# Altium integrated library Inductor 22uH.IntLib: 360 symbols (part 5 of 7)
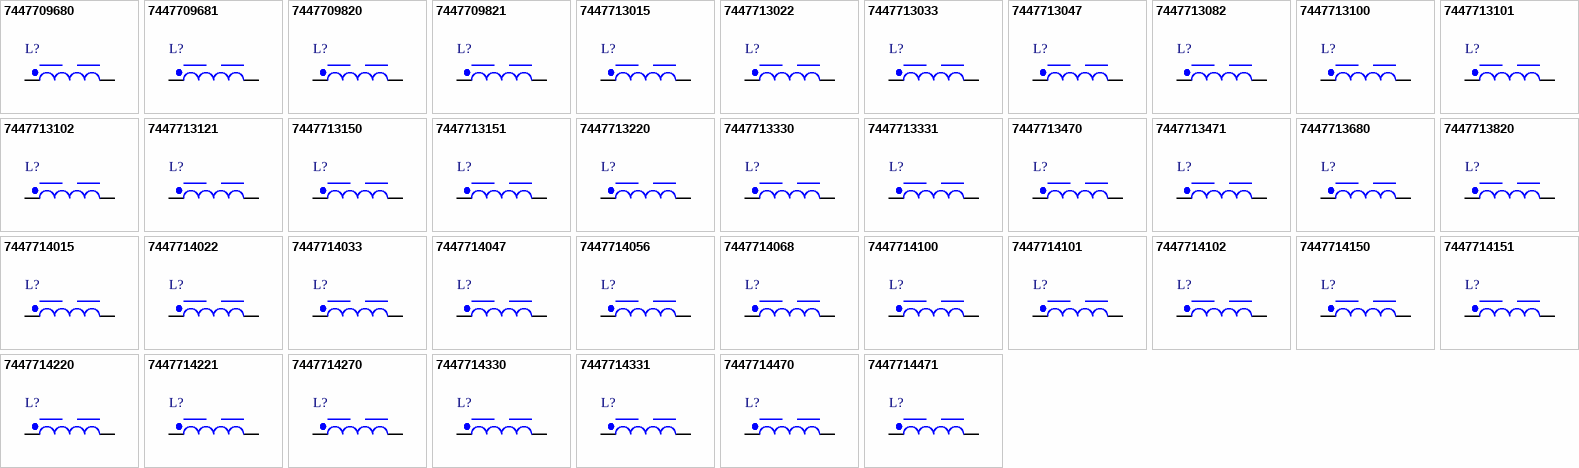
[diagram p12: symbols 7447709680 to 7447714471]

## 7447713680
designator L?, comment 68 μH, 1.1 A  (value not drawn)
WE-PD SMT Power Inductor, size 1030P, 68 μH, 1.1 A, 330 mΩ; Manufacturer Part Number: 7447713680; Manufacturer: Wurth Elektronik; DC Resistance: 275 mΩ; DC Resistance Max: 330 mΩ; Inductance: 68 μH; Rated Current: 1.1 A; Saturation Current: 1.6 A; Self Resonant Frequency: 9.4 MHz; Type: Performance; Category: Power Inductors; Match Code: WE-PD; ComponentLink1Description: Website Link; ComponentLink1URL: https://www.we-online.com/redexpert/article/7447713680?ad; ComponentLink2Description: Datasheet Link; ComponentLink2URL: https://www.we-online.com/redexpert/spec/7447713680?ad; Mount: Surface Mount; Min Operating Temperature: -40 °C; Max Operating Temperature: 150 °C; Packaging: Tape and Reel; Case/Size Code: 1030P; Length: 10 mm; Width: 10 mm; Height: 3 mm
footprint WE-PD_1030P
simulation model 1030_7447713680_68u
pins: 1, 2

## 7447713820
designator L?, comment 82 μH, 0.95 A  (value not drawn)
WE-PD SMT Power Inductor, size 1030P, 82 μH, 0.95 A, 419 mΩ; Manufacturer Part Number: 7447713820; Manufacturer: Wurth Elektronik; DC Resistance: 349 mΩ; DC Resistance Max: 419 mΩ; Inductance: 82 μH; Rated Current: 0.95 A; Saturation Current: 1.5 A; Self Resonant Frequency: 8.8 MHz; Type: Performance; Category: Power Inductors; Match Code: WE-PD; ComponentLink1Description: Website Link; ComponentLink1URL: https://www.we-online.com/redexpert/article/7447713820?ad; ComponentLink2Description: Datasheet Link; ComponentLink2URL: https://www.we-online.com/redexpert/spec/7447713820?ad; Mount: Surface Mount; Min Operating Temperature: -40 °C; Max Operating Temperature: 150 °C; Packaging: Tape and Reel; Case/Size Code: 1030P; Length: 10 mm; Width: 10 mm; Height: 3 mm
footprint WE-PD_1030P
simulation model 1030_7447713820_82u
pins: 1, 2

## 7447714015
designator L?, comment 1.5 μH, 10 A  (value not drawn)
WE-PD SMT Power Inductor, size 1050P, 1.5 μH, 10 A, 6.6 mΩ; Manufacturer Part Number: 7447714015; Manufacturer: Wurth Elektronik; DC Resistance: 5.55 mΩ; DC Resistance Max: 6.6 mΩ; Inductance: 1.5 μH; Rated Current: 10 A; Saturation Current: 12.5 A; Self Resonant Frequency: 69 MHz; Type: Performance; Category: Power Inductors; Match Code: WE-PD; ComponentLink1Description: Website Link; ComponentLink1URL: https://www.we-online.com/redexpert/article/7447714015?ad; ComponentLink2Description: Datasheet Link; ComponentLink2URL: https://www.we-online.com/redexpert/spec/7447714015?ad; Mount: Surface Mount; Min Operating Temperature: -40 °C; Max Operating Temperature: 150 °C; Packaging: Tape and Reel; Case/Size Code: 1050P; Length: 10 mm; Width: 10 mm; Height: 5 mm
footprint WE-PD_1050P
simulation model 1050_7447714015_1.5u
pins: 1, 2

## 7447714022
designator L?, comment 2.2 μH, 8.6 A  (value not drawn)
WE-PD SMT Power Inductor, size 1050P, 2.2 μH, 8.6 A, 8 mΩ; Manufacturer Part Number: 7447714022; Manufacturer: Wurth Elektronik; DC Resistance: 6.8 mΩ; DC Resistance Max: 8 mΩ; Inductance: 2.2 μH; Rated Current: 8.6 A; Saturation Current: 9.5 A; Self Resonant Frequency: 53 MHz; Type: Performance; Category: Power Inductors; Match Code: WE-PD; ComponentLink1Description: Website Link; ComponentLink1URL: https://www.we-online.com/redexpert/article/7447714022?ad; ComponentLink2Description: Datasheet Link; ComponentLink2URL: https://www.we-online.com/redexpert/spec/7447714022?ad; Mount: Surface Mount; Min Operating Temperature: -40 °C; Max Operating Temperature: 150 °C; Packaging: Tape and Reel; Case/Size Code: 1050P; Length: 10 mm; Width: 10 mm; Height: 5 mm
footprint WE-PD_1050P
simulation model 1050_7447714022_2.2u
pins: 1, 2

## 7447714033
designator L?, comment 3.3 μH, 7.5 A  (value not drawn)
WE-PD SMT Power Inductor, size 1050P, 3.3 μH, 7.5 A, 10.5 mΩ; Manufacturer Part Number: 7447714033; Manufacturer: Wurth Elektronik; DC Resistance: 8.9 mΩ; DC Resistance Max: 10.5 mΩ; Inductance: 3.3 μH; Rated Current: 7.5 A; Saturation Current: 9 A; Self Resonant Frequency: 42 MHz; Type: Performance; Category: Power Inductors; Match Code: WE-PD; ComponentLink1Description: Website Link; ComponentLink1URL: https://www.we-online.com/redexpert/article/7447714033?ad; ComponentLink2Description: Datasheet Link; ComponentLink2URL: https://www.we-online.com/redexpert/spec/7447714033?ad; Mount: Surface Mount; Min Operating Temperature: -40 °C; Max Operating Temperature: 150 °C; Packaging: Tape and Reel; Case/Size Code: 1050P; Length: 10 mm; Width: 10 mm; Height: 5 mm
footprint WE-PD_1050P
simulation model 1050_7447714033_3.3u
pins: 1, 2

## 7447714047
designator L?, comment 4.7 μH, 7 A  (value not drawn)
WE-PD SMT Power Inductor, size 1050P, 4.7 μH, 7 A, 12.4 mΩ; Manufacturer Part Number: 7447714047; Manufacturer: Wurth Elektronik; DC Resistance: 10.4 mΩ; DC Resistance Max: 12.4 mΩ; Inductance: 4.7 μH; Rated Current: 7 A; Saturation Current: 8 A; Self Resonant Frequency: 34 MHz; Type: Performance; Category: Power Inductors; Match Code: WE-PD; ComponentLink1Description: Website Link; ComponentLink1URL: https://www.we-online.com/redexpert/article/7447714047?ad; ComponentLink2Description: Datasheet Link; ComponentLink2URL: https://www.we-online.com/redexpert/spec/7447714047?ad; Mount: Surface Mount; Min Operating Temperature: -40 °C; Max Operating Temperature: 150 °C; Packaging: Tape and Reel; Case/Size Code: 1050P; Length: 10 mm; Width: 10 mm; Height: 5 mm
footprint WE-PD_1050P
simulation model 1050_7447714047_4.7u
pins: 1, 2

## 7447714056
designator L?, comment 5.6 μH, 6 A  (value not drawn)
WE-PD SMT Power Inductor, size 1050P, 5.6 μH, 6 A, 14.4 mΩ; Manufacturer Part Number: 7447714056; Manufacturer: Wurth Elektronik; DC Resistance: 12 mΩ; DC Resistance Max: 14.4 mΩ; Inductance: 5.6 μH; Rated Current: 6 A; Saturation Current: 7.2 A; Self Resonant Frequency: 28 MHz; Type: Performance; Category: Power Inductors; Match Code: WE-PD; ComponentLink1Description: Website Link; ComponentLink1URL: https://www.we-online.com/redexpert/article/7447714056?ad; ComponentLink2Description: Datasheet Link; ComponentLink2URL: https://www.we-online.com/redexpert/spec/7447714056?ad; Mount: Surface Mount; Min Operating Temperature: -40 °C; Max Operating Temperature: 150 °C; Packaging: Tape and Reel; Case/Size Code: 1050P; Length: 10 mm; Width: 10 mm; Height: 5 mm
footprint WE-PD_1050P
simulation model 1050_7447714056_5.6u
pins: 1, 2

## 7447714068
designator L?, comment 6.8 μH, 5.2 A  (value not drawn)
WE-PD SMT Power Inductor, size 1050P, 6.8 μH, 5.2 A, 22 mΩ; Manufacturer Part Number: 7447714068; Manufacturer: Wurth Elektronik; DC Resistance: 18.5 mΩ; DC Resistance Max: 22 mΩ; Inductance: 6.8 μH; Rated Current: 5.2 A; Saturation Current: 5.8 A; Self Resonant Frequency: 23.5 MHz; Type: Performance; Category: Power Inductors; Match Code: WE-PD; ComponentLink1Description: Website Link; ComponentLink1URL: https://www.we-online.com/redexpert/article/7447714068?ad; ComponentLink2Description: Datasheet Link; ComponentLink2URL: https://www.we-online.com/redexpert/spec/7447714068?ad; Mount: Surface Mount; Min Operating Temperature: -40 °C; Max Operating Temperature: 150 °C; Packaging: Tape and Reel; Case/Size Code: 1050P; Length: 10 mm; Width: 10 mm; Height: 5 mm
footprint WE-PD_1050P
simulation model 1050_7447714068_6.8u
pins: 1, 2

## 7447714100
designator L?, comment 10 μH, 4.3 A  (value not drawn)
WE-PD SMT Power Inductor, size 1050P, 10 μH, 4.3 A, 27 mΩ; Manufacturer Part Number: 7447714100; Manufacturer: Wurth Elektronik; DC Resistance: 23 mΩ; DC Resistance Max: 27 mΩ; Inductance: 10 μH; Rated Current: 4.3 A; Saturation Current: 5 A; Self Resonant Frequency: 20.5 MHz; Type: Performance; Category: Power Inductors; Match Code: WE-PD; ComponentLink1Description: Website Link; ComponentLink1URL: https://www.we-online.com/redexpert/article/7447714100?ad; ComponentLink2Description: Datasheet Link; ComponentLink2URL: https://www.we-online.com/redexpert/spec/7447714100?ad; Mount: Surface Mount; Min Operating Temperature: -40 °C; Max Operating Temperature: 150 °C; Packaging: Tape and Reel; Case/Size Code: 1050P; Length: 10 mm; Width: 10 mm; Height: 5 mm
footprint WE-PD_1050P
simulation model 1050_7447714100_10u
pins: 1, 2

## 7447714101
designator L?, comment 100 μH, 1.5 A  (value not drawn)
WE-PD SMT Power Inductor, size 1050P, 100 μH, 1.5 A, 198 mΩ; Manufacturer Part Number: 7447714101; Manufacturer: Wurth Elektronik; DC Resistance: 165 mΩ; DC Resistance Max: 198 mΩ; Inductance: 100 μH; Rated Current: 1.5 A; Saturation Current: 1.8 A; Self Resonant Frequency: 5.9 MHz; Type: Performance; Category: Power Inductors; Match Code: WE-PD; ComponentLink1Description: Website Link; ComponentLink1URL: https://www.we-online.com/redexpert/article/7447714101?ad; ComponentLink2Description: Datasheet Link; ComponentLink2URL: https://www.we-online.com/redexpert/spec/7447714101?ad; Mount: Surface Mount; Min Operating Temperature: -40 °C; Max Operating Temperature: 150 °C; Packaging: Tape and Reel; Case/Size Code: 1050P; Length: 10 mm; Width: 10 mm; Height: 5 mm
footprint WE-PD_1050P
simulation model 1050_7447714101_100u
pins: 1, 2

## 7447714102
designator L?, comment 1000 μH, 0.43 A  (value not drawn)
WE-PD SMT Power Inductor, size 1050P, 1000 μH, 0.43 A, 2050 mΩ; Manufacturer Part Number: 7447714102; Manufacturer: Wurth Elektronik; DC Resistance: 1860 mΩ; DC Resistance Max: 2050 mΩ; Inductance: 1000 μH; Rated Current: 0.43 A; Saturation Current: 0.55 A; Self Resonant Frequency: 1.7 MHz; Type: Performance; Category: Power Inductors; Match Code: WE-PD; ComponentLink1Description: Website Link; ComponentLink1URL: https://www.we-online.com/redexpert/article/7447714102?ad; ComponentLink2Description: Datasheet Link; ComponentLink2URL: https://www.we-online.com/redexpert/spec/7447714102?ad; Mount: Surface Mount; Min Operating Temperature: -40 °C; Max Operating Temperature: 150 °C; Packaging: Tape and Reel; Case/Size Code: 1050P; Length: 10 mm; Width: 10 mm; Height: 5 mm
footprint WE-PD_1050P
simulation model 1050_7447714102_1000u
pins: 1, 2

## 7447714150
designator L?, comment 15 μH, 3.5 A  (value not drawn)
WE-PD SMT Power Inductor, size 1050P, 15 μH, 3.5 A, 43 mΩ; Manufacturer Part Number: 7447714150; Manufacturer: Wurth Elektronik; DC Resistance: 36 mΩ; DC Resistance Max: 43 mΩ; Inductance: 15 μH; Rated Current: 3.5 A; Saturation Current: 4.1 A; Self Resonant Frequency: 16.8 MHz; Type: Performance; Category: Power Inductors; Match Code: WE-PD; ComponentLink1Description: Website Link; ComponentLink1URL: https://www.we-online.com/redexpert/article/7447714150?ad; ComponentLink2Description: Datasheet Link; ComponentLink2URL: https://www.we-online.com/redexpert/spec/7447714150?ad; Mount: Surface Mount; Min Operating Temperature: -40 °C; Max Operating Temperature: 150 °C; Packaging: Tape and Reel; Case/Size Code: 1050P; Length: 10 mm; Width: 10 mm; Height: 5 mm
footprint WE-PD_1050P
simulation model 1050_7447714150_15u
pins: 1, 2

## 7447714151
designator L?, comment 150 μH, 1.2 A  (value not drawn)
WE-PD SMT Power Inductor, size 1050P, 150 μH, 1.2 A, 300 mΩ; Manufacturer Part Number: 7447714151; Manufacturer: Wurth Elektronik; DC Resistance: 251 mΩ; DC Resistance Max: 300 mΩ; Inductance: 150 μH; Rated Current: 1.2 A; Saturation Current: 1.4 A; Self Resonant Frequency: 4.9 MHz; Type: Performance; Category: Power Inductors; Match Code: WE-PD; ComponentLink1Description: Website Link; ComponentLink1URL: https://www.we-online.com/redexpert/article/7447714151?ad; ComponentLink2Description: Datasheet Link; ComponentLink2URL: https://www.we-online.com/redexpert/spec/7447714151?ad; Mount: Surface Mount; Min Operating Temperature: -40 °C; Max Operating Temperature: 150 °C; Packaging: Tape and Reel; Case/Size Code: 1050P; Length: 10 mm; Width: 10 mm; Height: 5 mm
footprint WE-PD_1050P
simulation model 1050_7447714151_150u
pins: 1, 2

## 7447714220
designator L?, comment 22 μH, 3 A  (value not drawn)
WE-PD SMT Power Inductor, size 1050P, 22 μH, 3 A, 50 mΩ; Manufacturer Part Number: 7447714220; Manufacturer: Wurth Elektronik; DC Resistance: 42 mΩ; DC Resistance Max: 50 mΩ; Inductance: 22 μH; Rated Current: 3 A; Saturation Current: 3.6 A; Self Resonant Frequency: 14.5 MHz; Type: Performance; Category: Power Inductors; Match Code: WE-PD; ComponentLink1Description: Website Link; ComponentLink1URL: https://www.we-online.com/redexpert/article/7447714220?ad; ComponentLink2Description: Datasheet Link; ComponentLink2URL: https://www.we-online.com/redexpert/spec/7447714220?ad; Mount: Surface Mount; Min Operating Temperature: -40 °C; Max Operating Temperature: 150 °C; Packaging: Tape and Reel; Case/Size Code: 1050P; Length: 10 mm; Width: 10 mm; Height: 5 mm
footprint WE-PD_1050P
simulation model 1050_7447714220_22u
pins: 1, 2

## 7447714221
designator L?, comment 220 μH, 1 A  (value not drawn)
WE-PD SMT Power Inductor, size 1050P, 220 μH, 1 A, 439 mΩ; Manufacturer Part Number: 7447714221; Manufacturer: Wurth Elektronik; DC Resistance: 366 mΩ; DC Resistance Max: 439 mΩ; Inductance: 220 μH; Rated Current: 1 A; Saturation Current: 1.2 A; Self Resonant Frequency: 4.3 MHz; Type: Performance; Category: Power Inductors; Match Code: WE-PD; ComponentLink1Description: Website Link; ComponentLink1URL: https://www.we-online.com/redexpert/article/7447714221?ad; ComponentLink2Description: Datasheet Link; ComponentLink2URL: https://www.we-online.com/redexpert/spec/7447714221?ad; Mount: Surface Mount; Min Operating Temperature: -40 °C; Max Operating Temperature: 150 °C; Packaging: Tape and Reel; Case/Size Code: 1050P; Length: 10 mm; Width: 10 mm; Height: 5 mm
footprint WE-PD_1050P
simulation model 1050_7447714221_220u
pins: 1, 2

## 7447714270
designator L?, comment 27 μH, 2.6 A  (value not drawn)
WE-PD SMT Power Inductor, size 1050P, 27 μH, 2.6 A, 74 mΩ; Manufacturer Part Number: 7447714270; Manufacturer: Wurth Elektronik; DC Resistance: 63 mΩ; DC Resistance Max: 74 mΩ; Inductance: 27 μH; Rated Current: 2.6 A; Saturation Current: 3.4 A; Self Resonant Frequency: 14 MHz; Type: Performance; Category: Power Inductors; Match Code: WE-PD; ComponentLink1Description: Website Link; ComponentLink1URL: https://www.we-online.com/redexpert/article/7447714270?ad; ComponentLink2Description: Datasheet Link; ComponentLink2URL: https://www.we-online.com/redexpert/spec/7447714270?ad; Mount: Surface Mount; Min Operating Temperature: -40 °C; Max Operating Temperature: 150 °C; Packaging: Tape and Reel; Case/Size Code: 1050P; Length: 10 mm; Width: 10 mm; Height: 5 mm
footprint WE-PD_1050P
simulation model 1050_7447714270_27u
pins: 1, 2

## 7447714330
designator L?, comment 33 μH, 2.5 A  (value not drawn)
WE-PD SMT Power Inductor, size 1050P, 33 μH, 2.5 A, 79 mΩ; Manufacturer Part Number: 7447714330; Manufacturer: Wurth Elektronik; DC Resistance: 66 mΩ; DC Resistance Max: 79 mΩ; Inductance: 33 μH; Rated Current: 2.5 A; Saturation Current: 2.9 A; Self Resonant Frequency: 11.1 MHz; Type: Performance; Category: Power Inductors; Match Code: WE-PD; ComponentLink1Description: Website Link; ComponentLink1URL: https://www.we-online.com/redexpert/article/7447714330?ad; ComponentLink2Description: Datasheet Link; ComponentLink2URL: https://www.we-online.com/redexpert/spec/7447714330?ad; Mount: Surface Mount; Min Operating Temperature: -40 °C; Max Operating Temperature: 150 °C; Packaging: Tape and Reel; Case/Size Code: 1050P; Length: 10 mm; Width: 10 mm; Height: 5 mm
footprint WE-PD_1050P
simulation model 1050_7447714330_33u
pins: 1, 2

## 7447714331
designator L?, comment 330 μH, 0.71 A  (value not drawn)
WE-PD SMT Power Inductor, size 1050P, 330 μH, 0.71 A, 750 mΩ; Manufacturer Part Number: 7447714331; Manufacturer: Wurth Elektronik; DC Resistance: 655 mΩ; DC Resistance Max: 750 mΩ; Inductance: 330 μH; Rated Current: 0.71 A; Saturation Current: 1 A; Self Resonant Frequency: 3.15 MHz; Type: Performance; Category: Power Inductors; Match Code: WE-PD; ComponentLink1Description: Website Link; ComponentLink1URL: https://www.we-online.com/redexpert/article/7447714331?ad; ComponentLink2Description: Datasheet Link; ComponentLink2URL: https://www.we-online.com/redexpert/spec/7447714331?ad; Mount: Surface Mount; Min Operating Temperature: -40 °C; Max Operating Temperature: 150 °C; Packaging: Tape and Reel; Case/Size Code: 1050P; Length: 10 mm; Width: 10 mm; Height: 5 mm
footprint WE-PD_1050P
simulation model 1050_7447714331_330u
pins: 1, 2

## 7447714470
designator L?, comment 47 μH, 2.2 A  (value not drawn)
WE-PD SMT Power Inductor, size 1050P, 47 μH, 2.2 A, 99 mΩ; Manufacturer Part Number: 7447714470; Manufacturer: Wurth Elektronik; DC Resistance: 83 mΩ; DC Resistance Max: 99 mΩ; Inductance: 47 μH; Rated Current: 2.2 A; Saturation Current: 2.5 A; Self Resonant Frequency: 8.8 MHz; Type: Performance; Category: Power Inductors; Match Code: WE-PD; ComponentLink1Description: Website Link; ComponentLink1URL: https://www.we-online.com/redexpert/article/7447714470?ad; ComponentLink2Description: Datasheet Link; ComponentLink2URL: https://www.we-online.com/redexpert/spec/7447714470?ad; Mount: Surface Mount; Min Operating Temperature: -40 °C; Max Operating Temperature: 150 °C; Packaging: Tape and Reel; Case/Size Code: 1050P; Length: 10 mm; Width: 10 mm; Height: 5 mm
footprint WE-PD_1050P
simulation model 1050_7447714470_47u
pins: 1, 2

## 7447714471
designator L?, comment 470 μH, 0.6 A  (value not drawn)
WE-PD SMT Power Inductor, size 1050P, 470 μH, 0.6 A, 1100 mΩ; Manufacturer Part Number: 7447714471; Manufacturer: Wurth Elektronik; DC Resistance: 960 mΩ; DC Resistance Max: 1100 mΩ; Inductance: 470 μH; Rated Current: 0.6 A; Saturation Current: 0.82 A; Self Resonant Frequency: 2.5 MHz; Type: Performance; Category: Power Inductors; Match Code: WE-PD; ComponentLink1Description: Website Link; ComponentLink1URL: https://www.we-online.com/redexpert/article/7447714471?ad; ComponentLink2Description: Datasheet Link; ComponentLink2URL: https://www.we-online.com/redexpert/spec/7447714471?ad; Mount: Surface Mount; Min Operating Temperature: -40 °C; Max Operating Temperature: 150 °C; Packaging: Tape and Reel; Case/Size Code: 1050P; Length: 10 mm; Width: 10 mm; Height: 5 mm
footprint WE-PD_1050P
simulation model 1050_7447714471_470u
pins: 1, 2

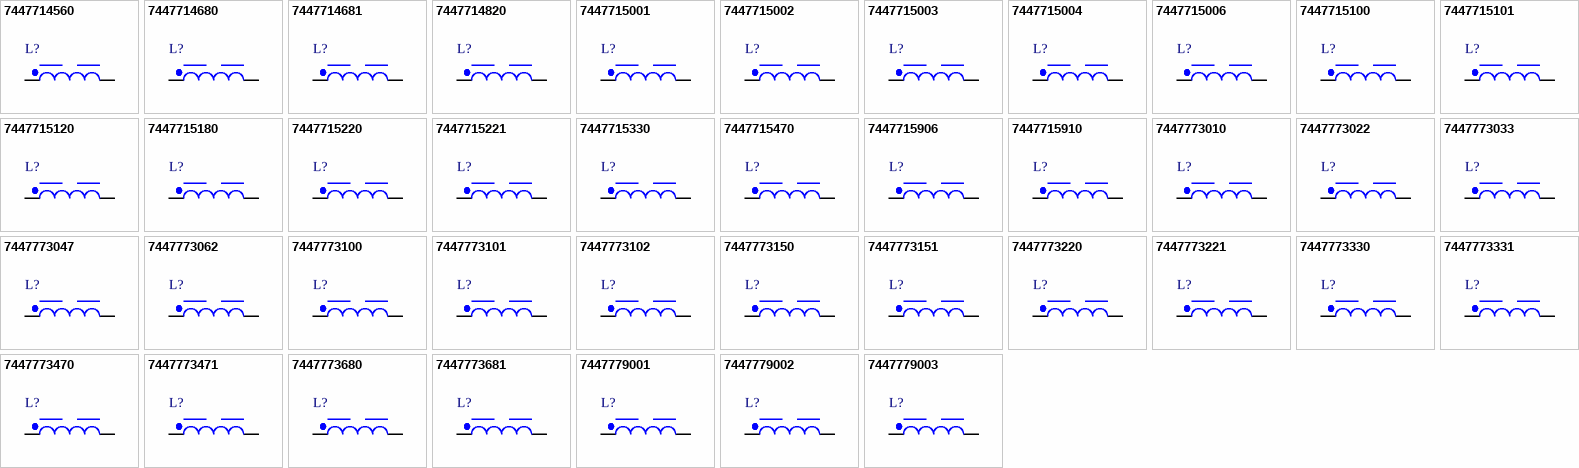
[diagram p6: symbols 7447714560 to 7447779003]

## 7447714560
designator L?, comment 56 μH, 2 A  (value not drawn)
WE-PD SMT Power Inductor, size 1050P, 56 μH, 2 A, 121 mΩ; Manufacturer Part Number: 7447714560; Manufacturer: Wurth Elektronik; DC Resistance: 101 mΩ; DC Resistance Max: 121 mΩ; Inductance: 56 μH; Rated Current: 2 A; Saturation Current: 2.3 A; Self Resonant Frequency: 8.6 MHz; Type: Performance; Category: Power Inductors; Match Code: WE-PD; ComponentLink1Description: Website Link; ComponentLink1URL: https://www.we-online.com/redexpert/article/7447714560?ad; ComponentLink2Description: Datasheet Link; ComponentLink2URL: https://www.we-online.com/redexpert/spec/7447714560?ad; Mount: Surface Mount; Min Operating Temperature: -40 °C; Max Operating Temperature: 150 °C; Packaging: Tape and Reel; Case/Size Code: 1050P; Length: 10 mm; Width: 10 mm; Height: 5 mm
footprint WE-PD_1050P
simulation model 1050_7447714560_56u
pins: 1, 2

## 7447714680
designator L?, comment 68 μH, 1.9 A  (value not drawn)
WE-PD SMT Power Inductor, size 1050P, 68 μH, 1.9 A, 132 mΩ; Manufacturer Part Number: 7447714680; Manufacturer: Wurth Elektronik; DC Resistance: 110 mΩ; DC Resistance Max: 132 mΩ; Inductance: 68 μH; Rated Current: 1.9 A; Saturation Current: 2.2 A; Self Resonant Frequency: 8 MHz; Type: Performance; Category: Power Inductors; Match Code: WE-PD; ComponentLink1Description: Website Link; ComponentLink1URL: https://www.we-online.com/redexpert/article/7447714680?ad; ComponentLink2Description: Datasheet Link; ComponentLink2URL: https://www.we-online.com/redexpert/spec/7447714680?ad; Mount: Surface Mount; Min Operating Temperature: -40 °C; Max Operating Temperature: 150 °C; Packaging: Tape and Reel; Case/Size Code: 1050P; Length: 10 mm; Width: 10 mm; Height: 5 mm
footprint WE-PD_1050P
simulation model 1050_7447714680_68u
pins: 1, 2

## 7447714681
designator L?, comment 680 μH, 0.51 A  (value not drawn)
WE-PD SMT Power Inductor, size 1050P, 680 μH, 0.51 A, 1220 mΩ; Manufacturer Part Number: 7447714681; Manufacturer: Wurth Elektronik; DC Resistance: 1140 mΩ; DC Resistance Max: 1220 mΩ; Inductance: 680 μH; Rated Current: 0.51 A; Saturation Current: 0.71 A; Self Resonant Frequency: 2.05 MHz; Type: Performance; Category: Power Inductors; Match Code: WE-PD; ComponentLink1Description: Website Link; ComponentLink1URL: https://www.we-online.com/redexpert/article/7447714681?ad; ComponentLink2Description: Datasheet Link; ComponentLink2URL: https://www.we-online.com/redexpert/spec/7447714681?ad; Mount: Surface Mount; Min Operating Temperature: -40 °C; Max Operating Temperature: 150 °C; Packaging: Tape and Reel; Case/Size Code: 1050P; Length: 10 mm; Width: 10 mm; Height: 5 mm
footprint WE-PD_1050P
simulation model 1050_7447714681_680u
pins: 1, 2

## 7447714820
designator L?, comment 82 μH, 1.6 A  (value not drawn)
WE-PD SMT Power Inductor, size 1050P, 82 μH, 1.6 A, 176 mΩ; Manufacturer Part Number: 7447714820; Manufacturer: Wurth Elektronik; DC Resistance: 147 mΩ; DC Resistance Max: 176 mΩ; Inductance: 82 μH; Rated Current: 1.6 A; Saturation Current: 1.85 A; Self Resonant Frequency: 6.6 MHz; Type: Performance; Category: Power Inductors; Match Code: WE-PD; ComponentLink1Description: Website Link; ComponentLink1URL: https://www.we-online.com/redexpert/article/7447714820?ad; ComponentLink2Description: Datasheet Link; ComponentLink2URL: https://www.we-online.com/redexpert/spec/7447714820?ad; Mount: Surface Mount; Min Operating Temperature: -40 °C; Max Operating Temperature: 150 °C; Packaging: Tape and Reel; Case/Size Code: 1050P; Length: 10 mm; Width: 10 mm; Height: 5 mm
footprint WE-PD_1050P
simulation model 1050_7447714820_82u
pins: 1, 2

## 7447715001
designator L?, comment 1.8 μH, 7.6 A  (value not drawn)
WE-PD SMT Power Inductor, size 1245, 1.8 μH, 7.6 A, 9.5 mΩ; Manufacturer Part Number: 7447715001; Manufacturer: Wurth Elektronik; Case/Size Code: 1245; DC Resistance: 7.5 mΩ; DC Resistance Max: 9.5 mΩ; Inductance: 1.8 μH; Rated Current: 7.6 A; Saturation Current: 10.2 A; Self Resonant Frequency: 76 MHz; Type: Standard; Category: Power Inductors; Match Code: WE-PD; ComponentLink1Description: Website Link; ComponentLink1URL: https://www.we-online.com/redexpert/article/7447715001?ad; ComponentLink2Description: Datasheet Link; ComponentLink2URL: https://www.we-online.com/redexpert/spec/7447715001?ad; Mount: Surface Mount; Min Operating Temperature: -40 °C; Max Operating Temperature: 125 °C; Packaging: Tape and Reel; Length: 12 mm; Width: 12 mm; Height: 4.5 mm
footprint WE-PD_1245
simulation model 1245_7447715001_1.8u
pins: 1, 2

## 7447715002
designator L?, comment 2.5 μH, 6.8 A  (value not drawn)
WE-PD SMT Power Inductor, size 1245, 2.5 μH, 6.8 A, 11 mΩ; Manufacturer Part Number: 7447715002; Manufacturer: Wurth Elektronik; Case/Size Code: 1245; DC Resistance: 8.5 mΩ; DC Resistance Max: 11 mΩ; Inductance: 2.5 μH; Rated Current: 6.8 A; Saturation Current: 8.5 A; Self Resonant Frequency: 50 MHz; Type: Standard; Category: Power Inductors; Match Code: WE-PD; ComponentLink1Description: Website Link; ComponentLink1URL: https://www.we-online.com/redexpert/article/7447715002?ad; ComponentLink2Description: Datasheet Link; ComponentLink2URL: https://www.we-online.com/redexpert/spec/7447715002?ad; Mount: Surface Mount; Min Operating Temperature: -40 °C; Max Operating Temperature: 125 °C; Packaging: Tape and Reel; Length: 12 mm; Width: 12 mm; Height: 4.5 mm
footprint WE-PD_1245
simulation model 1245_7447715002_2.5u
pins: 1, 2

## 7447715003
designator L?, comment 3.3 μH, 5.9 A  (value not drawn)
WE-PD SMT Power Inductor, size 1245, 3.3 μH, 5.9 A, 13 mΩ; Manufacturer Part Number: 7447715003; Manufacturer: Wurth Elektronik; Case/Size Code: 1245; DC Resistance: 11.5 mΩ; DC Resistance Max: 13 mΩ; Inductance: 3.3 μH; Rated Current: 5.9 A; Saturation Current: 7.1 A; Self Resonant Frequency: 40 MHz; Type: Standard; Category: Power Inductors; Match Code: WE-PD; ComponentLink1Description: Website Link; ComponentLink1URL: https://www.we-online.com/redexpert/article/7447715003?ad; ComponentLink2Description: Datasheet Link; ComponentLink2URL: https://www.we-online.com/redexpert/spec/7447715003?ad; Mount: Surface Mount; Min Operating Temperature: -40 °C; Max Operating Temperature: 125 °C; Packaging: Tape and Reel; Length: 12 mm; Width: 12 mm; Height: 4.5 mm
footprint WE-PD_1245
simulation model 1245_7447715003_3.3u
pins: 1, 2

## 7447715004
designator L?, comment 4.7 μH, 5.2 A  (value not drawn)
WE-PD SMT Power Inductor, size 1245, 4.7 μH, 5.2 A, 16 mΩ; Manufacturer Part Number: 7447715004; Manufacturer: Wurth Elektronik; Case/Size Code: 1245; DC Resistance: 13.5 mΩ; DC Resistance Max: 16 mΩ; Inductance: 4.7 μH; Rated Current: 5.2 A; Saturation Current: 6.3 A; Self Resonant Frequency: 37 MHz; Type: Standard; Category: Power Inductors; Match Code: WE-PD; ComponentLink1Description: Website Link; ComponentLink1URL: https://www.we-online.com/redexpert/article/7447715004?ad; ComponentLink2Description: Datasheet Link; ComponentLink2URL: https://www.we-online.com/redexpert/spec/7447715004?ad; Mount: Surface Mount; Min Operating Temperature: -40 °C; Max Operating Temperature: 125 °C; Packaging: Tape and Reel; Length: 12 mm; Width: 12 mm; Height: 4.5 mm
footprint WE-PD_1245
simulation model 1245_7447715004_4.7u
pins: 1, 2

## 7447715006
designator L?, comment 6.8 μH, 4.3 A  (value not drawn)
WE-PD SMT Power Inductor, size 1245, 6.8 μH, 4.3 A, 25 mΩ; Manufacturer Part Number: 7447715006; Manufacturer: Wurth Elektronik; Case/Size Code: 1245; DC Resistance: 20 mΩ; DC Resistance Max: 25 mΩ; Inductance: 6.8 μH; Rated Current: 4.3 A; Saturation Current: 4.7 A; Self Resonant Frequency: 27 MHz; Type: Standard; Category: Power Inductors; Match Code: WE-PD; ComponentLink1Description: Website Link; ComponentLink1URL: https://www.we-online.com/redexpert/article/7447715006?ad; ComponentLink2Description: Datasheet Link; ComponentLink2URL: https://www.we-online.com/redexpert/spec/7447715006?ad; Mount: Surface Mount; Min Operating Temperature: -40 °C; Max Operating Temperature: 125 °C; Packaging: Tape and Reel; Length: 12 mm; Width: 12 mm; Height: 4.5 mm
footprint WE-PD_1245
simulation model 1245_7447715006_6.8u
pins: 1, 2

## 7447715100
designator L?, comment 10 μH, 3.8 A  (value not drawn)
WE-PD SMT Power Inductor, size 1245, 10 μH, 3.8 A, 30 mΩ; Manufacturer Part Number: 7447715100; Manufacturer: Wurth Elektronik; Case/Size Code: 1245; DC Resistance: 25 mΩ; DC Resistance Max: 30 mΩ; Inductance: 10 μH; Rated Current: 3.8 A; Saturation Current: 4.2 A; Self Resonant Frequency: 22 MHz; Type: Standard; Category: Power Inductors; Match Code: WE-PD; ComponentLink1Description: Website Link; ComponentLink1URL: https://www.we-online.com/redexpert/article/7447715100?ad; ComponentLink2Description: Datasheet Link; ComponentLink2URL: https://www.we-online.com/redexpert/spec/7447715100?ad; Mount: Surface Mount; Min Operating Temperature: -40 °C; Max Operating Temperature: 125 °C; Packaging: Tape and Reel; Length: 12 mm; Width: 12 mm; Height: 4.5 mm
footprint WE-PD_1245
simulation model 1245_7447715100_10u
pins: 1, 2

## 7447715101
designator L?, comment 100 μH, 1.3 A  (value not drawn)
WE-PD SMT Power Inductor, size 1245, 100 μH, 1.3 A, 270 mΩ; Manufacturer Part Number: 7447715101; Manufacturer: Wurth Elektronik; Case/Size Code: 1245; DC Resistance: 250 mΩ; DC Resistance Max: 270 mΩ; Inductance: 100 μH; Rated Current: 1.3 A; Saturation Current: 1.4 A; Self Resonant Frequency: 6.9 MHz; Type: Standard; Category: Power Inductors; Match Code: WE-PD; ComponentLink1Description: Website Link; ComponentLink1URL: https://www.we-online.com/redexpert/article/7447715101?ad; ComponentLink2Description: Datasheet Link; ComponentLink2URL: https://www.we-online.com/redexpert/spec/7447715101?ad; Mount: Surface Mount; Min Operating Temperature: -40 °C; Max Operating Temperature: 125 °C; Packaging: Tape and Reel; Length: 12 mm; Width: 12 mm; Height: 4.5 mm
footprint WE-PD_1245
simulation model 1245_7447715101_100u
pins: 1, 2

## 7447715120
designator L?, comment 12 μH, 3.5 A  (value not drawn)
WE-PD SMT Power Inductor, size 1245, 12 μH, 3.5 A, 38 mΩ; Manufacturer Part Number: 7447715120; Manufacturer: Wurth Elektronik; Case/Size Code: 1245; DC Resistance: 30 mΩ; DC Resistance Max: 38 mΩ; Inductance: 12 μH; Rated Current: 3.5 A; Saturation Current: 3.6 A; Self Resonant Frequency: 19 MHz; Type: Standard; Category: Power Inductors; Match Code: WE-PD; ComponentLink1Description: Website Link; ComponentLink1URL: https://www.we-online.com/redexpert/article/7447715120?ad; ComponentLink2Description: Datasheet Link; ComponentLink2URL: https://www.we-online.com/redexpert/spec/7447715120?ad; Mount: Surface Mount; Min Operating Temperature: -40 °C; Max Operating Temperature: 125 °C; Packaging: Tape and Reel; Length: 12 mm; Width: 12 mm; Height: 4.5 mm
footprint WE-PD_1245
simulation model 1245_7447715120_12u
pins: 1, 2

## 7447715180
designator L?, comment 18 μH, 3.2 A  (value not drawn)
WE-PD SMT Power Inductor, size 1245, 18 μH, 3.2 A, 51 mΩ; Manufacturer Part Number: 7447715180; Manufacturer: Wurth Elektronik; Case/Size Code: 1245; DC Resistance: 37 mΩ; DC Resistance Max: 51 mΩ; Inductance: 18 μH; Rated Current: 3.2 A; Self Resonant Frequency: 17 MHz; Type: Standard; Category: Power Inductors; Match Code: WE-PD; ComponentLink1Description: Website Link; ComponentLink1URL: https://www.we-online.com/redexpert/article/7447715180?ad; ComponentLink2Description: Datasheet Link; ComponentLink2URL: https://www.we-online.com/redexpert/spec/7447715180?ad; Mount: Surface Mount; Min Operating Temperature: -40 °C; Max Operating Temperature: 125 °C; Packaging: Tape and Reel; Length: 12 mm; Width: 12 mm; Height: 4.5 mm; Saturation Current: 3.2 A
footprint WE-PD_1245
simulation model 1245_7447715180_18u
pins: 1, 2

## 7447715220
designator L?, comment 22 μH, 2.9 A  (value not drawn)
WE-PD SMT Power Inductor, size 1245, 22 μH, 2.9 A, 65 mΩ; Manufacturer Part Number: 7447715220; Manufacturer: Wurth Elektronik; Case/Size Code: 1245; DC Resistance: 45 mΩ; DC Resistance Max: 65 mΩ; Inductance: 22 μH; Rated Current: 2.9 A; Saturation Current: 3.1 A; Self Resonant Frequency: 15.5 MHz; Type: Standard; Category: Power Inductors; Match Code: WE-PD; ComponentLink1Description: Website Link; ComponentLink1URL: https://www.we-online.com/redexpert/article/7447715220?ad; ComponentLink2Description: Datasheet Link; ComponentLink2URL: https://www.we-online.com/redexpert/spec/7447715220?ad; Mount: Surface Mount; Min Operating Temperature: -40 °C; Max Operating Temperature: 125 °C; Packaging: Tape and Reel; Length: 12 mm; Width: 12 mm; Height: 4.5 mm
footprint WE-PD_1245
simulation model 1245_7447715220_22u
pins: 1, 2

## 7447715221
designator L?, comment 220 μH, 0.95 A  (value not drawn)
WE-PD SMT Power Inductor, size 1245, 220 μH, 0.95 A, 480 mΩ; Manufacturer Part Number: 7447715221; Manufacturer: Wurth Elektronik; Case/Size Code: 1245; DC Resistance: 460 mΩ; DC Resistance Max: 480 mΩ; Inductance: 220 μH; Rated Current: 0.95 A; Saturation Current: 1 A; Self Resonant Frequency: 4.7 MHz; Type: Standard; Category: Power Inductors; Match Code: WE-PD; ComponentLink1Description: Website Link; ComponentLink1URL: https://www.we-online.com/redexpert/article/7447715221?ad; ComponentLink2Description: Datasheet Link; ComponentLink2URL: https://www.we-online.com/redexpert/spec/7447715221?ad; Mount: Surface Mount; Min Operating Temperature: -40 °C; Max Operating Temperature: 125 °C; Packaging: Tape and Reel; Length: 12 mm; Width: 12 mm; Height: 4.5 mm
footprint WE-PD_1245
simulation model 1245_7447715221_220u
pins: 1, 2

## 7447715330
designator L?, comment 33 μH, 2.3 A  (value not drawn)
WE-PD SMT Power Inductor, size 1245, 33 μH, 2.3 A, 85 mΩ; Manufacturer Part Number: 7447715330; Manufacturer: Wurth Elektronik; Case/Size Code: 1245; DC Resistance: 75 mΩ; DC Resistance Max: 85 mΩ; Inductance: 33 μH; Rated Current: 2.3 A; Saturation Current: 2.5 A; Self Resonant Frequency: 13 MHz; Type: Standard; Category: Power Inductors; Match Code: WE-PD; ComponentLink1Description: Website Link; ComponentLink1URL: https://www.we-online.com/redexpert/article/7447715330?ad; ComponentLink2Description: Datasheet Link; ComponentLink2URL: https://www.we-online.com/redexpert/spec/7447715330?ad; Mount: Surface Mount; Min Operating Temperature: -40 °C; Max Operating Temperature: 125 °C; Packaging: Tape and Reel; Length: 12 mm; Width: 12 mm; Height: 4.5 mm
footprint WE-PD_1245
simulation model 1245_7447715330_33u
pins: 1, 2

## 7447715470
designator L?, comment 47 μH, 1.95 A  (value not drawn)
WE-PD SMT Power Inductor, size 1245, 47 μH, 1.95 A, 125 mΩ; Manufacturer Part Number: 7447715470; Manufacturer: Wurth Elektronik; Case/Size Code: 1245; DC Resistance: 105 mΩ; DC Resistance Max: 125 mΩ; Inductance: 47 μH; Rated Current: 1.95 A; Saturation Current: 2.1 A; Self Resonant Frequency: 9.7 MHz; Type: Standard; Category: Power Inductors; Match Code: WE-PD; ComponentLink1Description: Website Link; ComponentLink1URL: https://www.we-online.com/redexpert/article/7447715470?ad; ComponentLink2Description: Datasheet Link; ComponentLink2URL: https://www.we-online.com/redexpert/spec/7447715470?ad; Mount: Surface Mount; Min Operating Temperature: -40 °C; Max Operating Temperature: 125 °C; Packaging: Tape and Reel; Length: 12 mm; Width: 12 mm; Height: 4.5 mm
footprint WE-PD_1245
simulation model 1245_7447715470_47u
pins: 1, 2

## 7447715906
designator L?, comment 0.6 μH, 9.5 A  (value not drawn)
WE-PD SMT Power Inductor, size 1245, 0.6 μH, 9.5 A, 5.5 mΩ; Manufacturer Part Number: 7447715906; Manufacturer: Wurth Elektronik; Case/Size Code: 1245; DC Resistance: 4.5 mΩ; DC Resistance Max: 5.5 mΩ; Inductance: 0.6 μH; Rated Current: 9.5 A; Saturation Current: 19 A; Self Resonant Frequency: 160 MHz; Type: Standard; Category: Power Inductors; Match Code: WE-PD; ComponentLink1Description: Website Link; ComponentLink1URL: https://www.we-online.com/redexpert/article/7447715906?ad; ComponentLink2Description: Datasheet Link; ComponentLink2URL: https://www.we-online.com/redexpert/spec/7447715906?ad; Mount: Surface Mount; Min Operating Temperature: -40 °C; Max Operating Temperature: 125 °C; Packaging: Tape and Reel; Length: 12 mm; Width: 12 mm; Height: 4.5 mm
footprint WE-PD_1245
simulation model 1245_7447715906_0.6u
pins: 1, 2

## 7447715910
designator L?, comment 1 μH, 8.5 A  (value not drawn)
WE-PD SMT Power Inductor, size 1245, 1 μH, 8.5 A, 7 mΩ; Manufacturer Part Number: 7447715910; Manufacturer: Wurth Elektronik; Case/Size Code: 1245; DC Resistance: 5.5 mΩ; DC Resistance Max: 7 mΩ; Inductance: 1 μH; Rated Current: 8.5 A; Saturation Current: 13.9 A; Self Resonant Frequency: 98 MHz; Type: Standard; Category: Power Inductors; Match Code: WE-PD; ComponentLink1Description: Website Link; ComponentLink1URL: https://www.we-online.com/redexpert/article/7447715910?ad; ComponentLink2Description: Datasheet Link; ComponentLink2URL: https://www.we-online.com/redexpert/spec/7447715910?ad; Mount: Surface Mount; Min Operating Temperature: -40 °C; Max Operating Temperature: 125 °C; Packaging: Tape and Reel; Length: 12 mm; Width: 12 mm; Height: 4.5 mm
footprint WE-PD_1245
simulation model 1245_7447715910_1u
pins: 1, 2

## 7447773010
designator L?, comment 1 μH, 6 A  (value not drawn)
WE-PD SMT Power Inductor, size 7345P, 1 μH, 6 A, 12 mΩ; Manufacturer Part Number: 7447773010; Manufacturer: Wurth Elektronik; DC Resistance: 8.4 mΩ; DC Resistance Max: 12 mΩ; Inductance: 1 μH; Rated Current: 6 A; Saturation Current: 10 A; Self Resonant Frequency: 98 MHz; Type: Performance; Category: Power Inductors; Match Code: WE-PD; ComponentLink1Description: Website Link; ComponentLink1URL: https://www.we-online.com/redexpert/article/7447773010?ad; ComponentLink2Description: Datasheet Link; ComponentLink2URL: https://www.we-online.com/redexpert/spec/7447773010?ad; Mount: Surface Mount; Min Operating Temperature: -40 °C; Max Operating Temperature: 150 °C; Packaging: Tape and Reel; Case/Size Code: 7345P; Length: 7.3 mm; Width: 7.4 mm; Height: 4.5 mm
footprint WE-PD_7345P
simulation model 7345_7447773010_1u
pins: 1, 2

## 7447773022
designator L?, comment 2.2 μH, 4.8 A  (value not drawn)
WE-PD SMT Power Inductor, size 7345P, 2.2 μH, 4.8 A, 17.5 mΩ; Manufacturer Part Number: 7447773022; Manufacturer: Wurth Elektronik; DC Resistance: 12.5 mΩ; DC Resistance Max: 17.5 mΩ; Inductance: 2.2 μH; Rated Current: 4.8 A; Saturation Current: 8 A; Self Resonant Frequency: 61 MHz; Type: Performance; Category: Power Inductors; Match Code: WE-PD; ComponentLink1Description: Website Link; ComponentLink1URL: https://www.we-online.com/redexpert/article/7447773022?ad; ComponentLink2Description: Datasheet Link; ComponentLink2URL: https://www.we-online.com/redexpert/spec/7447773022?ad; Mount: Surface Mount; Min Operating Temperature: -40 °C; Max Operating Temperature: 150 °C; Packaging: Tape and Reel; Case/Size Code: 7345P; Length: 7.3 mm; Width: 7.4 mm; Height: 4.5 mm
footprint WE-PD_7345P
simulation model 7345_7447773022_2.2u
pins: 1, 2

## 7447773033
designator L?, comment 3.3 μH, 4.3 A  (value not drawn)
WE-PD SMT Power Inductor, size 7345P, 3.3 μH, 4.3 A, 21 mΩ; Manufacturer Part Number: 7447773033; Manufacturer: Wurth Elektronik; DC Resistance: 15.5 mΩ; DC Resistance Max: 21 mΩ; Inductance: 3.3 μH; Rated Current: 4.3 A; Saturation Current: 6.6 A; Self Resonant Frequency: 51 MHz; Type: Performance; Category: Power Inductors; Match Code: WE-PD; ComponentLink1Description: Website Link; ComponentLink1URL: https://www.we-online.com/redexpert/article/7447773033?ad; ComponentLink2Description: Datasheet Link; ComponentLink2URL: https://www.we-online.com/redexpert/spec/7447773033?ad; Mount: Surface Mount; Min Operating Temperature: -40 °C; Max Operating Temperature: 150 °C; Packaging: Tape and Reel; Case/Size Code: 7345P; Length: 7.3 mm; Width: 7.4 mm; Height: 4.5 mm
footprint WE-PD_7345P
simulation model 7345_7447773033_3.3u
pins: 1, 2

## 7447773047
designator L?, comment 4.7 μH, 3.6 A  (value not drawn)
WE-PD SMT Power Inductor, size 7345P, 4.7 μH, 3.6 A, 26 mΩ; Manufacturer Part Number: 7447773047; Manufacturer: Wurth Elektronik; DC Resistance: 20 mΩ; DC Resistance Max: 26 mΩ; Inductance: 4.7 μH; Rated Current: 3.6 A; Saturation Current: 5.5 A; Self Resonant Frequency: 35.5 MHz; Type: Performance; Category: Power Inductors; Match Code: WE-PD; ComponentLink1Description: Website Link; ComponentLink1URL: https://www.we-online.com/redexpert/article/7447773047?ad; ComponentLink2Description: Datasheet Link; ComponentLink2URL: https://www.we-online.com/redexpert/spec/7447773047?ad; Mount: Surface Mount; Min Operating Temperature: -40 °C; Max Operating Temperature: 150 °C; Packaging: Tape and Reel; Case/Size Code: 7345P; Length: 7.3 mm; Width: 7.4 mm; Height: 4.5 mm
footprint WE-PD_7345P
simulation model 7345_7447773047_4.7u
pins: 1, 2

## 7447773062
designator L?, comment 6.2 μH, 3.2 A  (value not drawn)
WE-PD SMT Power Inductor, size 7345P, 6.2 μH, 3.2 A, 30 mΩ; Manufacturer Part Number: 7447773062; Manufacturer: Wurth Elektronik; DC Resistance: 25 mΩ; DC Resistance Max: 30 mΩ; Inductance: 6.2 μH; Rated Current: 3.2 A; Saturation Current: 4.8 A; Self Resonant Frequency: 31 MHz; Type: Performance; Category: Power Inductors; Match Code: WE-PD; ComponentLink1Description: Website Link; ComponentLink1URL: https://www.we-online.com/redexpert/article/7447773062?ad; ComponentLink2Description: Datasheet Link; ComponentLink2URL: https://www.we-online.com/redexpert/spec/7447773062?ad; Mount: Surface Mount; Min Operating Temperature: -40 °C; Max Operating Temperature: 150 °C; Packaging: Tape and Reel; Case/Size Code: 7345P; Length: 7.3 mm; Width: 7.4 mm; Height: 4.5 mm
footprint WE-PD_7345P
simulation model 7345_7447773062_6.2u
pins: 1, 2

## 7447773100
designator L?, comment 10 μH, 2.6 A  (value not drawn)
WE-PD SMT Power Inductor, size 7345P, 10 μH, 2.6 A, 45 mΩ; Manufacturer Part Number: 7447773100; Manufacturer: Wurth Elektronik; DC Resistance: 37.5 mΩ; DC Resistance Max: 45 mΩ; Inductance: 10 μH; Rated Current: 2.6 A; Saturation Current: 3.8 A; Self Resonant Frequency: 23 MHz; Type: Performance; Category: Power Inductors; Match Code: WE-PD; ComponentLink1Description: Website Link; ComponentLink1URL: https://www.we-online.com/redexpert/article/7447773100?ad; ComponentLink2Description: Datasheet Link; ComponentLink2URL: https://www.we-online.com/redexpert/spec/7447773100?ad; Mount: Surface Mount; Min Operating Temperature: -40 °C; Max Operating Temperature: 150 °C; Packaging: Tape and Reel; Case/Size Code: 7345P; Length: 7.3 mm; Width: 7.4 mm; Height: 4.5 mm
footprint WE-PD_7345P
simulation model 7345_7447773100_10u
pins: 1, 2

## 7447773101
designator L?, comment 100 μH, 0.97 A  (value not drawn)
WE-PD SMT Power Inductor, size 7345P, 100 μH, 0.97 A, 335 mΩ; Manufacturer Part Number: 7447773101; Manufacturer: Wurth Elektronik; DC Resistance: 270 mΩ; DC Resistance Max: 335 mΩ; Inductance: 100 μH; Rated Current: 0.97 A; Saturation Current: 1.2 A; Self Resonant Frequency: 6.7 MHz; Type: Performance; Category: Power Inductors; Match Code: WE-PD; ComponentLink1Description: Website Link; ComponentLink1URL: https://www.we-online.com/redexpert/article/7447773101?ad; ComponentLink2Description: Datasheet Link; ComponentLink2URL: https://www.we-online.com/redexpert/spec/7447773101?ad; Mount: Surface Mount; Min Operating Temperature: -40 °C; Max Operating Temperature: 150 °C; Packaging: Tape and Reel; Case/Size Code: 7345P; Length: 7.3 mm; Width: 7.4 mm; Height: 4.5 mm
footprint WE-PD_7345P
simulation model 7345_7447773101_100u
pins: 1, 2

## 7447773102
designator L?, comment 1000 μH, 0.3 A  (value not drawn)
WE-PD SMT Power Inductor, size 7345P, 1000 μH, 0.3 A, 3300 mΩ; Manufacturer Part Number: 7447773102; Manufacturer: Wurth Elektronik; DC Resistance: 2850 mΩ; DC Resistance Max: 3300 mΩ; Inductance: 1000 μH; Rated Current: 0.3 A; Saturation Current: 0.38 A; Self Resonant Frequency: 1.9 MHz; Type: Performance; Category: Power Inductors; Match Code: WE-PD; ComponentLink1Description: Website Link; ComponentLink1URL: https://www.we-online.com/redexpert/article/7447773102?ad; ComponentLink2Description: Datasheet Link; ComponentLink2URL: https://www.we-online.com/redexpert/spec/7447773102?ad; Mount: Surface Mount; Min Operating Temperature: -40 °C; Max Operating Temperature: 150 °C; Packaging: Tape and Reel; Case/Size Code: 7345P; Length: 7.3 mm; Width: 7.4 mm; Height: 4.5 mm
footprint WE-PD_7345P
simulation model 7345_7447773102_1000u
pins: 1, 2

## 7447773150
designator L?, comment 15 μH, 2.2 A  (value not drawn)
WE-PD SMT Power Inductor, size 7345P, 15 μH, 2.2 A, 69.5 mΩ; Manufacturer Part Number: 7447773150; Manufacturer: Wurth Elektronik; DC Resistance: 53 mΩ; DC Resistance Max: 69.5 mΩ; Inductance: 15 μH; Rated Current: 2.2 A; Saturation Current: 3.1 A; Self Resonant Frequency: 20.7 MHz; Type: Performance; Category: Power Inductors; Match Code: WE-PD; ComponentLink1Description: Website Link; ComponentLink1URL: https://www.we-online.com/redexpert/article/7447773150?ad; ComponentLink2Description: Datasheet Link; ComponentLink2URL: https://www.we-online.com/redexpert/spec/7447773150?ad; Mount: Surface Mount; Min Operating Temperature: -40 °C; Max Operating Temperature: 150 °C; Packaging: Tape and Reel; Case/Size Code: 7345P; Length: 7.3 mm; Width: 7.4 mm; Height: 4.5 mm
footprint WE-PD_7345P
simulation model 7345_7447773150_15u
pins: 1, 2

## 7447773151
designator L?, comment 150 μH, 0.78 A  (value not drawn)
WE-PD SMT Power Inductor, size 7345P, 150 μH, 0.78 A, 515 mΩ; Manufacturer Part Number: 7447773151; Manufacturer: Wurth Elektronik; DC Resistance: 410 mΩ; DC Resistance Max: 515 mΩ; Inductance: 150 μH; Rated Current: 0.78 A; Saturation Current: 0.95 A; Self Resonant Frequency: 5.2 MHz; Type: Performance; Category: Power Inductors; Match Code: WE-PD; ComponentLink1Description: Website Link; ComponentLink1URL: https://www.we-online.com/redexpert/article/7447773151?ad; ComponentLink2Description: Datasheet Link; ComponentLink2URL: https://www.we-online.com/redexpert/spec/7447773151?ad; Mount: Surface Mount; Min Operating Temperature: -40 °C; Max Operating Temperature: 150 °C; Packaging: Tape and Reel; Case/Size Code: 7345P; Length: 7.3 mm; Width: 7.4 mm; Height: 4.5 mm
footprint WE-PD_7345P
simulation model 7345_7447773151_150u
pins: 1, 2

## 7447773220
designator L?, comment 22 μH, 1.85 A  (value not drawn)
WE-PD SMT Power Inductor, size 7345P, 22 μH, 1.85 A, 87 mΩ; Manufacturer Part Number: 7447773220; Manufacturer: Wurth Elektronik; DC Resistance: 75 mΩ; DC Resistance Max: 87 mΩ; Inductance: 22 μH; Rated Current: 1.85 A; Saturation Current: 2.5 A; Self Resonant Frequency: 16.1 MHz; Type: Performance; Category: Power Inductors; Match Code: WE-PD; ComponentLink1Description: Website Link; ComponentLink1URL: https://www.we-online.com/redexpert/article/7447773220?ad; ComponentLink2Description: Datasheet Link; ComponentLink2URL: https://www.we-online.com/redexpert/spec/7447773220?ad; Mount: Surface Mount; Min Operating Temperature: -40 °C; Max Operating Temperature: 150 °C; Packaging: Tape and Reel; Case/Size Code: 7345P; Length: 7.3 mm; Width: 7.4 mm; Height: 4.5 mm
footprint WE-PD_7345P
simulation model 7345_7447773220_22u
pins: 1, 2

## 7447773221
designator L?, comment 220 μH, 0.63 A  (value not drawn)
WE-PD SMT Power Inductor, size 7345P, 220 μH, 0.63 A, 770 mΩ; Manufacturer Part Number: 7447773221; Manufacturer: Wurth Elektronik; DC Resistance: 640 mΩ; DC Resistance Max: 770 mΩ; Inductance: 220 μH; Rated Current: 0.63 A; Saturation Current: 0.81 A; Self Resonant Frequency: 4.3 MHz; Type: Performance; Category: Power Inductors; Match Code: WE-PD; ComponentLink1Description: Website Link; ComponentLink1URL: https://www.we-online.com/redexpert/article/7447773221?ad; ComponentLink2Description: Datasheet Link; ComponentLink2URL: https://www.we-online.com/redexpert/spec/7447773221?ad; Mount: Surface Mount; Min Operating Temperature: -40 °C; Max Operating Temperature: 150 °C; Packaging: Tape and Reel; Case/Size Code: 7345P; Length: 7.3 mm; Width: 7.4 mm; Height: 4.5 mm
footprint WE-PD_7345P
simulation model 7345_7447773221_220u
pins: 1, 2

## 7447773330
designator L?, comment 33 μH, 1.45 A  (value not drawn)
WE-PD SMT Power Inductor, size 7345P, 33 μH, 1.45 A, 147 mΩ; Manufacturer Part Number: 7447773330; Manufacturer: Wurth Elektronik; DC Resistance: 120 mΩ; DC Resistance Max: 147 mΩ; Inductance: 33 μH; Rated Current: 1.45 A; Saturation Current: 2.1 A; Self Resonant Frequency: 13.5 MHz; Type: Performance; Category: Power Inductors; Match Code: WE-PD; ComponentLink1Description: Website Link; ComponentLink1URL: https://www.we-online.com/redexpert/article/7447773330?ad; ComponentLink2Description: Datasheet Link; ComponentLink2URL: https://www.we-online.com/redexpert/spec/7447773330?ad; Mount: Surface Mount; Min Operating Temperature: -40 °C; Max Operating Temperature: 150 °C; Packaging: Tape and Reel; Case/Size Code: 7345P; Length: 7.3 mm; Width: 7.4 mm; Height: 4.5 mm
footprint WE-PD_7345P
simulation model 7345_7447773330_33u
pins: 1, 2

## 7447773331
designator L?, comment 330 μH, 0.53 A  (value not drawn)
WE-PD SMT Power Inductor, size 7345P, 330 μH, 0.53 A, 1085 mΩ; Manufacturer Part Number: 7447773331; Manufacturer: Wurth Elektronik; DC Resistance: 900 mΩ; DC Resistance Max: 1085 mΩ; Inductance: 330 μH; Rated Current: 0.53 A; Saturation Current: 0.66 A; Self Resonant Frequency: 3.6 MHz; Type: Performance; Category: Power Inductors; Match Code: WE-PD; ComponentLink1Description: Website Link; ComponentLink1URL: https://www.we-online.com/redexpert/article/7447773331?ad; ComponentLink2Description: Datasheet Link; ComponentLink2URL: https://www.we-online.com/redexpert/spec/7447773331?ad; Mount: Surface Mount; Min Operating Temperature: -40 °C; Max Operating Temperature: 150 °C; Packaging: Tape and Reel; Case/Size Code: 7345P; Length: 7.3 mm; Width: 7.4 mm; Height: 4.5 mm
footprint WE-PD_7345P
simulation model 7345_7447773331_330u
pins: 1, 2

## 7447773470
designator L?, comment 47 μH, 1.3 A  (value not drawn)
WE-PD SMT Power Inductor, size 7345P, 47 μH, 1.3 A, 182 mΩ; Manufacturer Part Number: 7447773470; Manufacturer: Wurth Elektronik; DC Resistance: 150 mΩ; DC Resistance Max: 182 mΩ; Inductance: 47 μH; Rated Current: 1.3 A; Saturation Current: 1.7 A; Self Resonant Frequency: 10.3 MHz; Type: Performance; Category: Power Inductors; Match Code: WE-PD; ComponentLink1Description: Website Link; ComponentLink1URL: https://www.we-online.com/redexpert/article/7447773470?ad; ComponentLink2Description: Datasheet Link; ComponentLink2URL: https://www.we-online.com/redexpert/spec/7447773470?ad; Mount: Surface Mount; Min Operating Temperature: -40 °C; Max Operating Temperature: 150 °C; Packaging: Tape and Reel; Case/Size Code: 7345P; Length: 7.3 mm; Width: 7.4 mm; Height: 4.5 mm
footprint WE-PD_7345P
simulation model 7345_7447773470_47u
pins: 1, 2